# Altium footprint library KPDELPS1FPQISI34U5152S.PcbLib: 1 footprints
Each footprint in its own frame and in the unit in brackets; x right, y up, seen from the top. Pads: shape width x height; smd on the part's side, far side on the other; paste and mask are expansions set on the pad; w line width, h text height; cw(c..) or ccw(c..) is an arc to the next point about the centre after c.
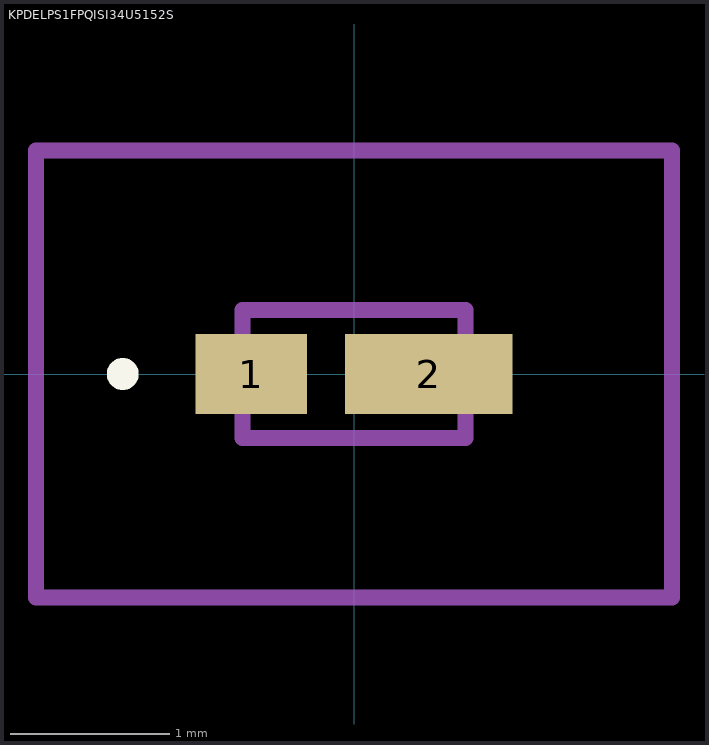
[diagram p0: the footprint, top view; thin cyan lines are the x and y axes]

## KPDELPS1FPQISI34U5152S [mm]
pads (2):
  rect 0.7x0.5 smd: 1(-0.645,0)
  rect 1.05x0.5 smd: 2(0.47,0)
Top Overlay:
  lines w0.1: -1.5,0 cw(c-1.45,0) -1.4,0 ; -1.5,0 -1.5,0 ; -1.5,0 ccw(c-1.45,0) -1.4,0 ; -1.4,0 -1.4,0
Mechanical 15:
  lines w0.1: -0.7,-0.4 0.7,-0.4 0.7,0.4 -0.7,0.4 -0.7,-0.4
Mechanical 20:
  lines w0.1: -1.995,-1.4 1.995,-1.4 1.995,1.4 -1.995,1.4 -1.995,-1.4